# Altium footprint library 47571-0001.PcbLib: 1 footprints
Each footprint in its own frame and in the unit in brackets; x right, y up, seen from the top. Pads: shape width x height; smd on the part's side, far side on the other; paste and mask are expansions set on the pad; w line width, h text height; cw(c..) or ccw(c..) is an arc to the next point about the centre after c.
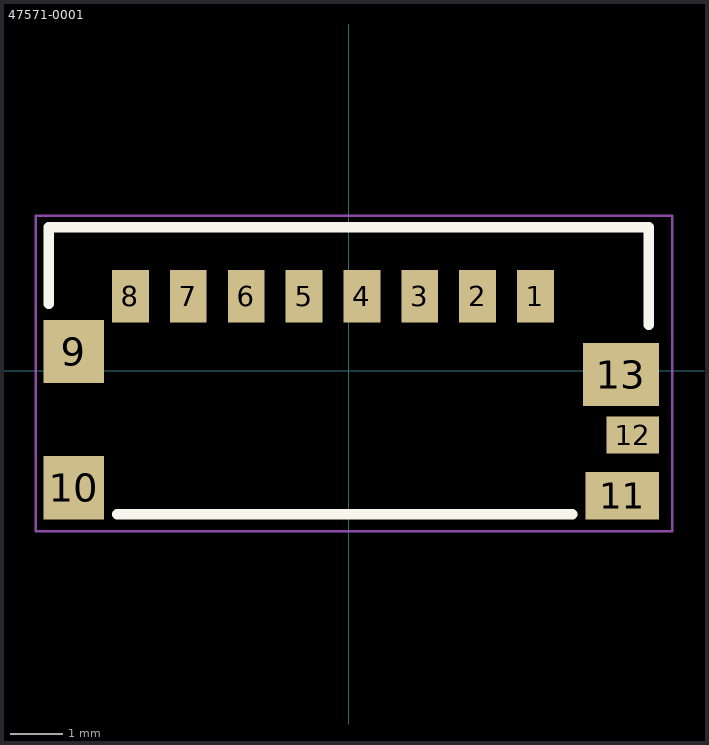
[diagram p0: the footprint, top view; thin cyan lines are the x and y axes]

## 47571-0001 [mm]
pads (13):
  rect 0.7x1 smd: 1(3.55,1.415) 2(2.45,1.415) 3(1.35,1.415) 4(0.25,1.415) 5(-0.85,1.415) 6(-1.95,1.415) 7(-3.05,1.415) 8(-4.15,1.415)
  rect 1.15x1.2 smd: 9(-5.225,0.365) 10(-5.225,-2.225)
  rect 1.4x0.9 smd: 11(5.2,-2.375)
  rect 1x0.7 smd: 12(5.4,-1.225)
  rect 1.45x1.2 smd: 13(5.175,-0.075)
Top Overlay:
  lines w0.2: -5.7,1.275 -5.7,2.725 5.7,2.725 5.7,0.875 ; -4.4,-2.725 4.25,-2.725
Top Courtyard:
  lines w0.05: -5.95,-3.05 6.15,-3.05 6.15,2.95 -5.95,2.95 -5.95,-3.05
3D body "Conn_Molex_47571-0001_eec.STEP": height 2.26, standoff -0.03, extent -5.685,-2.725 5.715,2.725